# EAGLE library part D2822 (library Custom)
dual audio power amplifier also kown TDA2822
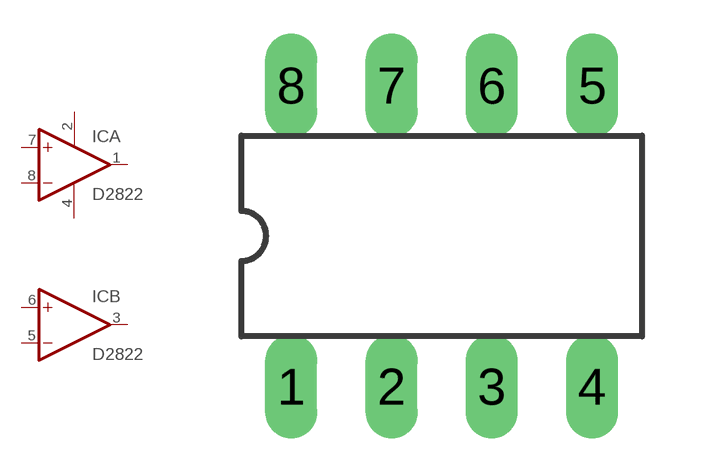
[diagram p21: symbol with the pads of DIL8; footprint DIL8]

Designator prefix IC; gates A=OPAMP B=OPAMP P=PWR+-

## D2822N  [DIL8]
1  A:OUT  out
2  P:VCC  pwr
3  B:OUT  out
4  P:GND  pwr
5  B:-IN  in
6  B:+IN  in
7  A:+IN  in
8  A:-IN  in

## Footprint DIL8 (pad centres in mm)
Dual In Line package type P
drill 0.813 long: 1 -3.81,-3.81; 2 -1.27,-3.81; 3 1.27,-3.81; 4 3.81,-3.81; 5 3.81,3.81; 6 1.27,3.81; 7 -1.27,3.81; 8 -3.81,3.81